# Altium footprint library CONN_HDR_1.27MM_ST_SMDE.PcbLib: 2 footprints
Each footprint in its own frame and in the unit in brackets; x right, y up, seen from the top. Pads: shape width x height; smd on the part's side, far side on the other; paste and mask are expansions set on the pad; w line width, h text height; cw(c..) or ccw(c..) is an arc to the next point about the centre after c.
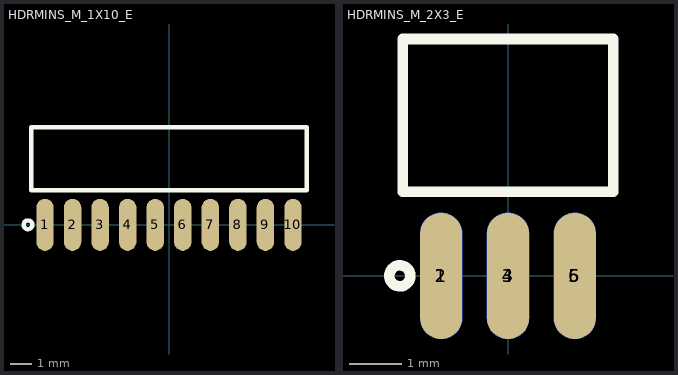
[diagram p0: the footprints below, top view; thin cyan lines are the x and y axes]

## HDRMINS_M_1X10_E [mm] "mini header (50mil pitch)"
pads (10):
  oval 0.8x2.4 smd mask+0.1: 1(-5.715,0) 2(-4.445,0) 3(-3.175,0) 4(-1.905,0) 5(-0.635,0) 6(0.635,0) 7(1.905,0) 8(3.175,0) 9(4.445,0) 10(5.715,0)
Top Overlay:
  circle w0.2: c-6.5,0 r0.2
  lines w0.2: -6.35,1.6 -6.35,4.5 6.35,4.5 6.35,1.6 -6.35,1.6
3D body: height 0.84, standoff -0.44, extent 5.08,1.6 6.35,4.4
3D body: height 0.4, standoff 0, extent 5.515,-0.9 5.915,8.9
3D body: height 0.84, standoff -0.44, extent 3.81,1.6 5.08,4.4
3D body: height 0.4, standoff 0, extent 4.245,-0.9 4.645,8.9
3D body: height 0.84, standoff -0.44, extent 2.54,1.6 3.81,4.4
3D body: height 0.4, standoff 0, extent 2.975,-0.9 3.375,8.9
3D body: height 0.84, standoff -0.44, extent 1.27,1.6 2.54,4.4
3D body: height 0.4, standoff 0, extent 1.705,-0.9 2.105,8.9
3D body: height 0.84, standoff -0.44, extent 0,1.6 1.27,4.4
3D body: height 0.4, standoff 0, extent 0.435,-0.9 0.835,8.9
3D body: height 0.84, standoff -0.44, extent -1.27,1.6 0,4.4
3D body: height 0.4, standoff 0, extent -0.835,-0.9 -0.435,8.9
3D body: height 0.84, standoff -0.44, extent -2.54,1.6 -1.27,4.4
3D body: height 0.4, standoff 0, extent -2.105,-0.9 -1.705,8.9
3D body: height 0.84, standoff -0.44, extent -3.81,1.6 -2.54,4.4
3D body: height 0.4, standoff 0, extent -3.375,-0.9 -2.975,8.9
3D body: height 0.84, standoff -0.44, extent -5.08,1.6 -3.81,4.4
3D body: height 0.4, standoff 0, extent -4.645,-0.9 -4.245,8.9
3D body: height 0.4, standoff 0, extent -5.915,-0.9 -5.515,8.9
3D body: height 0.84, standoff -0.44, extent -6.35,1.6 -5.08,4.4

## HDRMINS_M_2X3_E [mm] "mini header (50mil pitch)"
pads (6):
  oval 0.8x2.4 smd mask+0.1: 1(-1.27,0) 3(0,0) 5(1.27,0)
  oval 0.8x2.4 smd far side mask+0.1: 2(-1.27,0) 4(0,0) 6(1.27,0)
Top Overlay:
  circle w0.2: c-2.055,0 r0.2
  lines w0.2: -2,1.6 2,1.6 2,4.5 -2,4.5 -2,1.6
3D body: height 0.84, standoff -0.44, extent -1.905,1.6 -0.635,4.4
3D body: height 0.4, standoff 0, extent -1.47,-0.9 -1.07,8.9
3D body: height 0.4, standoff 0, extent -0.2,-0.9 0.2,8.9
3D body: height 0.84, standoff -0.44, extent -0.635,1.6 0.635,4.4
3D body: height 0.4, standoff 0, extent 1.07,-0.9 1.47,8.9
3D body: height 0.84, standoff -0.44, extent 0.635,1.6 1.905,4.4
3D body: height -0.87, standoff -1.27, extent -1.47,-0.9 -1.07,8.9
3D body: height -0.43, standoff -1.71, extent -1.905,1.6 -0.635,4.4
3D body: height -0.87, standoff -1.27, extent -0.2,-0.9 0.2,8.9
3D body: height -0.43, standoff -1.71, extent -0.635,1.6 0.635,4.4
3D body: height -0.87, standoff -1.27, extent 1.07,-0.9 1.47,8.9
3D body: height -0.43, standoff -1.71, extent 0.635,1.6 1.905,4.4